# EAGLE library part FSA2866 (library GTA04b7)
Dual-Host / Dual-SIM Card Crosspoint Analog Switch
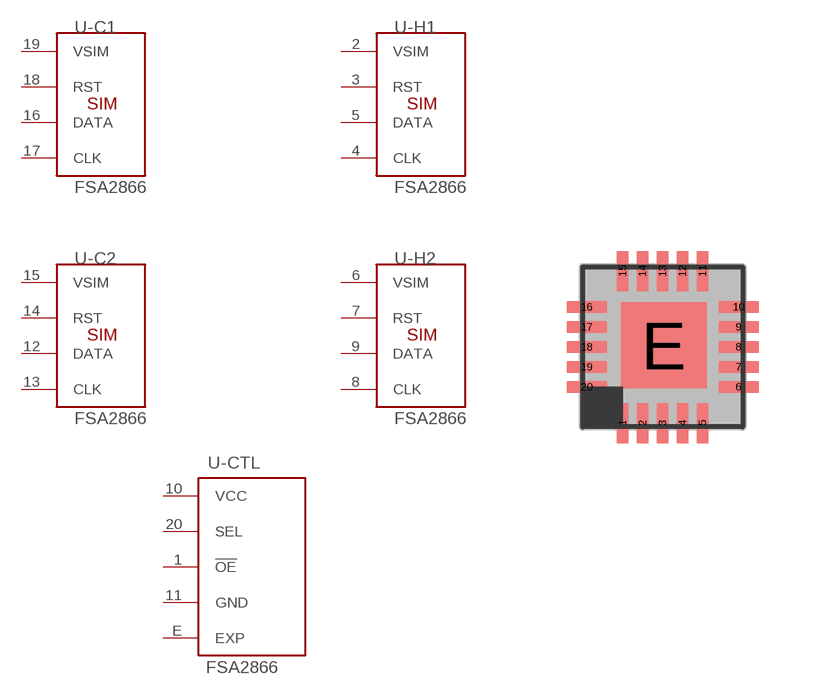
[diagram p18: symbol with the pads of S-PWQFN-N20-0.5; footprint S-PWQFN-N20-0.5]

Designator prefix -; gates -C1=IF-SIM-NOCD -C2=IF-SIM-NOCD -CTL=FSA2866 -H1=IF-SIM-NOCD -H2=IF-SIM-NOCD

## FSA2866UMX_CHECK0.5VS0.4PITCH_  [S-PWQFN-N20-0.5]
1  -CTL:!OE  in
2  -H1:VSIM  pwr
3  -H1:RST  out
4  -H1:CLK  out
5  -H1:DATA
6  -H2:VSIM  pwr
7  -H2:RST  out
8  -H2:CLK  out
9  -H2:DATA
10  -CTL:VCC  pwr
11  -CTL:GND  pwr
12  -C2:DATA
13  -C2:CLK  out
14  -C2:RST  out
15  -C2:VSIM  pwr
16  -C1:DATA
17  -C1:CLK  out
18  -C1:RST  out
19  -C1:VSIM  pwr
20  -CTL:SEL  in
E  -CTL:EXP  nc

## Footprint S-PWQFN-N20-0.5 (pad centres in mm)
TI RTJ (S-PWQFN-N20)
smd 0.28 x 1: 1 -1,-1.9; 2 -0.5,-1.9; 3 0,-1.9; 4 0.5,-1.9; 5 1,-1.9; 11 1,1.9; 12 0.5,1.9; 13 0,1.9; 14 -0.5,1.9; 15 -1,1.9
smd 1 x 0.28: 6 1.9,-1; 7 1.9,-0.5; 8 1.9,0; 9 1.9,0.5; 10 1.9,1; 16 -1.9,1; 17 -1.9,0.5; 18 -1.9,0; 19 -1.9,-0.5; 20 -1.9,-1
smd 2.15 x 2.15: E 0.03,0.04